# EAGLE library part MC33932 (library freescale)
5.0 A Throttle Control H-Bridge Auto generated by make-symbol-device-package-bsdl.ulp Rev. 33 Source: http://www.freescale.com/files/analog/doc/data_sheet/MC33932.pdf?fpsp=1
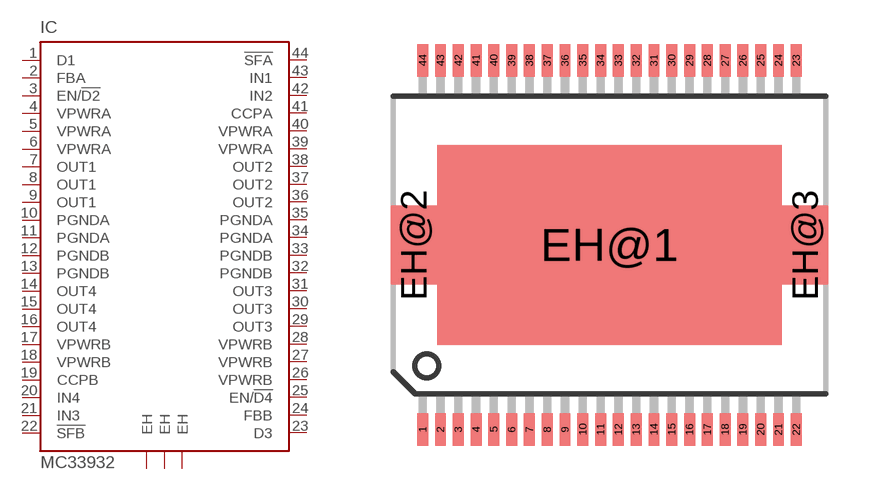
[diagram p10: symbol with the pads of HSOP44; footprint HSOP44]

Designator prefix IC

## MC33932 (MPN: MC33932VW; OC_FARNELL: 1701639; OC_NEWARK: 67P3304)  [HSOP44]
1  D1  in
2  FBA  out
3  EN/!D2  in
4  VPWRA  in
5  VPWRA  in
6  VPWRA  in
7  OUT1  out
8  OUT1  pas
9  OUT1  pas
10  PGNDA  pwr
11  PGNDA  pwr
12  PGNDB  pwr
13  PGNDB  pwr
14  OUT4  out
15  OUT4  pas
16  OUT4  pas
17  VPWRB  in
18  VPWRB  in
19  CCPB  out
20  IN4  in
21  IN3  in
22  !SFB  oc
23  D3  in
24  FBB  out
25  EN/!D4  in
26  VPWRB  in
27  VPWRB  in
28  VPWRB  in
29  OUT3  out
30  OUT3  pas
31  OUT3  pas
32  PGNDB  pwr
33  PGNDB  pwr
34  PGNDA  pwr
35  PGNDA  pwr
36  OUT2  out
37  OUT2  pas
38  OUT2  pas
39  VPWRA  in
40  VPWRA  in
41  CCPA  out
42  IN2  in
43  IN1  in
44  !SFA  oc
EH@1  EH  pas
EH@2  EH  pas
EH@3  EH  pas

## Footprint HSOP44 (pad centres in mm)
44 LEAD HSOP W/PROTRUDING HEADSINK Source: http://www.freescale.com/files/shared/doc/package_info/98ARH98330A.pdf
smd 0.4 x 1.2: 1 -6.825,-6.75; 2 -6.175,-6.75; 3 -5.525,-6.75; 4 -4.875,-6.75; 5 -4.225,-6.75; 6 -3.575,-6.75; 7 -2.925,-6.75; 8 -2.275,-6.75; 9 -1.625,-6.75; 10 -0.975,-6.75; 11 -0.325,-6.75; 12 0.325,-6.75; 13 0.975,-6.75; 14 1.625,-6.75; 15 2.275,-6.75; 16 2.925,-6.75; 17 3.575,-6.75; 18 4.225,-6.75; 19 4.875,-6.75; 20 5.525,-6.75; 21 6.175,-6.75; 22 6.825,-6.75; 23 6.825,6.75; 24 6.175,6.75; 25 5.525,6.75; 26 4.875,6.75; 27 4.225,6.75; 28 3.575,6.75; 29 2.925,6.75; 30 2.275,6.75; 31 1.625,6.75; 32 0.975,6.75; 33 0.325,6.75; 34 -0.325,6.75; 35 -0.975,6.75; 36 -1.625,6.75; 37 -2.275,6.75; 38 -2.925,6.75; 39 -3.575,6.75; 40 -4.225,6.75; 41 -4.875,6.75; 42 -5.525,6.75; 43 -6.175,6.75; 44 -6.825,6.75
smd 12.6 x 7.3: EH@1 0,0
smd 1.7 x 2.9: EH@2 -7.15,0; EH@3 7.15,0